# EAGLE library part TERMINAL-6P (library angrypig7-Connectors)
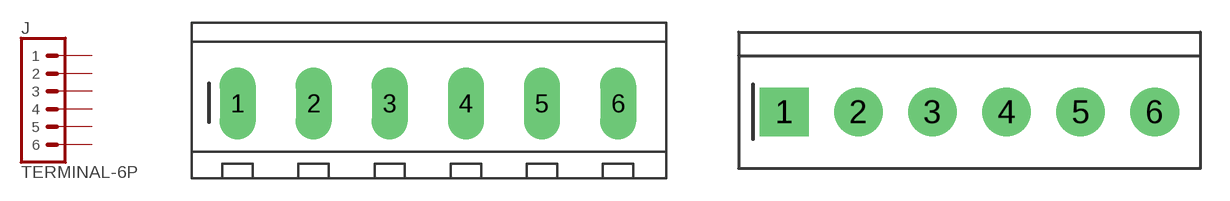
[diagram p3: symbol with the pads of TERMINAL_SCREW_BLOCK_6P_5MM; footprints TERMINAL_SCREW_BLOCK_6P_5MM, TERMINAL_PLUG_BLOCK_6P_3.81MM]

Designator prefix J

## TERMINAL-6P_SCREW-5MM  [TERMINAL_SCREW_BLOCK_6P_5MM]
1  1  pas
2  2  pas
3  3  pas
4  4  pas
5  5  pas
6  6  pas

## TERMINAL-6P_PLUG-3.81MM  [TERMINAL_PLUG_BLOCK_6P_3.81MM]
Pads as for TERMINAL_SCREW_BLOCK_6P_5MM

## Footprint TERMINAL_SCREW_BLOCK_6P_5MM (pad centres in mm)
WR-TBL Serie 2425 - 5.08 mm Vertical Entry w. Rising Cage Clamp Max Height =9.8mm , Pitch 5.08mm , 6 Pins
drill 1.2 pad 2.38 long: 1 -12.5,0; 2 -7.5,0; 3 -2.5,0; 4 2.5,0; 5 7.5,0; 6 12.5,0

## Footprint TERMINAL_PLUG_BLOCK_6P_3.81MM (pad centres in mm)
WR-TBL Serie 321 - 3.81 mm Vertical PCB Header Max Height = 9.2mm , Pitch 3.81mm , 6pins
drill 1 pad 2.5 square: 1 -9.525,0
drill 1 pad 2.5: 2 -5.715,0; 3 -1.905,0; 4 1.905,0; 5 5.715,0; 6 9.525,0